# EAGLE library part QR14 (library metraTec_OEM)
THT Mifare RFID reader module with onboard antenna, MMCX external Antenna Connector, UART Interface and 8 GPIOs 5V/120mA supply
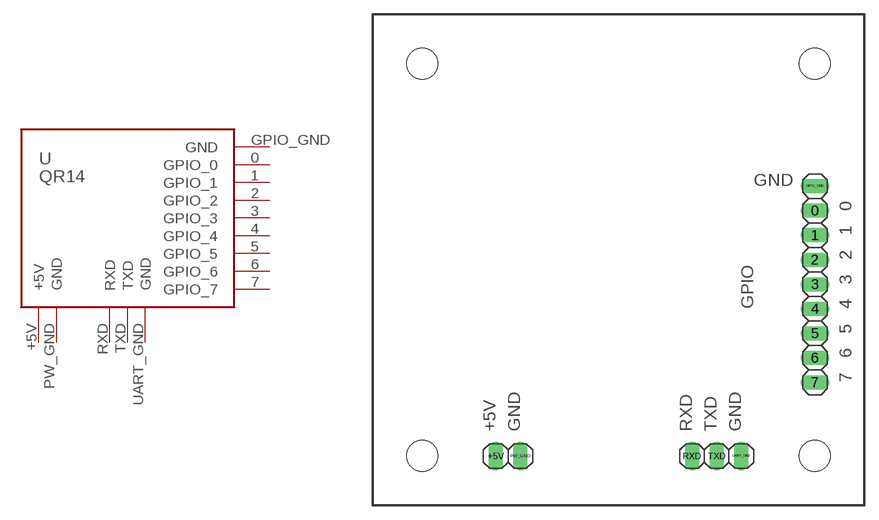
[diagram p0: symbol with the pads of QR; footprint QR]

Designator prefix -

## QR14  [QR]
0  GPIO_0
1  GPIO_1
2  GPIO_2
3  GPIO_3
4  GPIO_4
5  GPIO_5
6  GPIO_6
7  GPIO_7
+5V  +5V
GPIO_GND  GND
PW_GND  GND
RXD  RXD  in
TXD  TXD  out
UART_GND  GND

## Footprint QR (pad centres in mm)
drill 1.016 long: 0 45.72,30.48; 1 45.72,27.94; 2 45.72,25.4; 3 45.72,22.86; 4 45.72,20.32; 5 45.72,17.78; 6 45.72,15.24; 7 45.72,12.7; +5V 12.7,5.08; GPIO_GND 45.72,33.02; PW_GND 15.24,5.08; RXD 33.02,5.08; TXD 35.56,5.08; UART_GND 38.1,5.08
hole 3.2 at 45.72,5.08
hole 3.2 at 45.72,45.72
hole 3.2 at 5.08,45.72
hole 3.2 at 5.08,5.08